# Altium schematic symbol library TAUV-Lib.SchLib: 493 symbols (part 3 of 5)
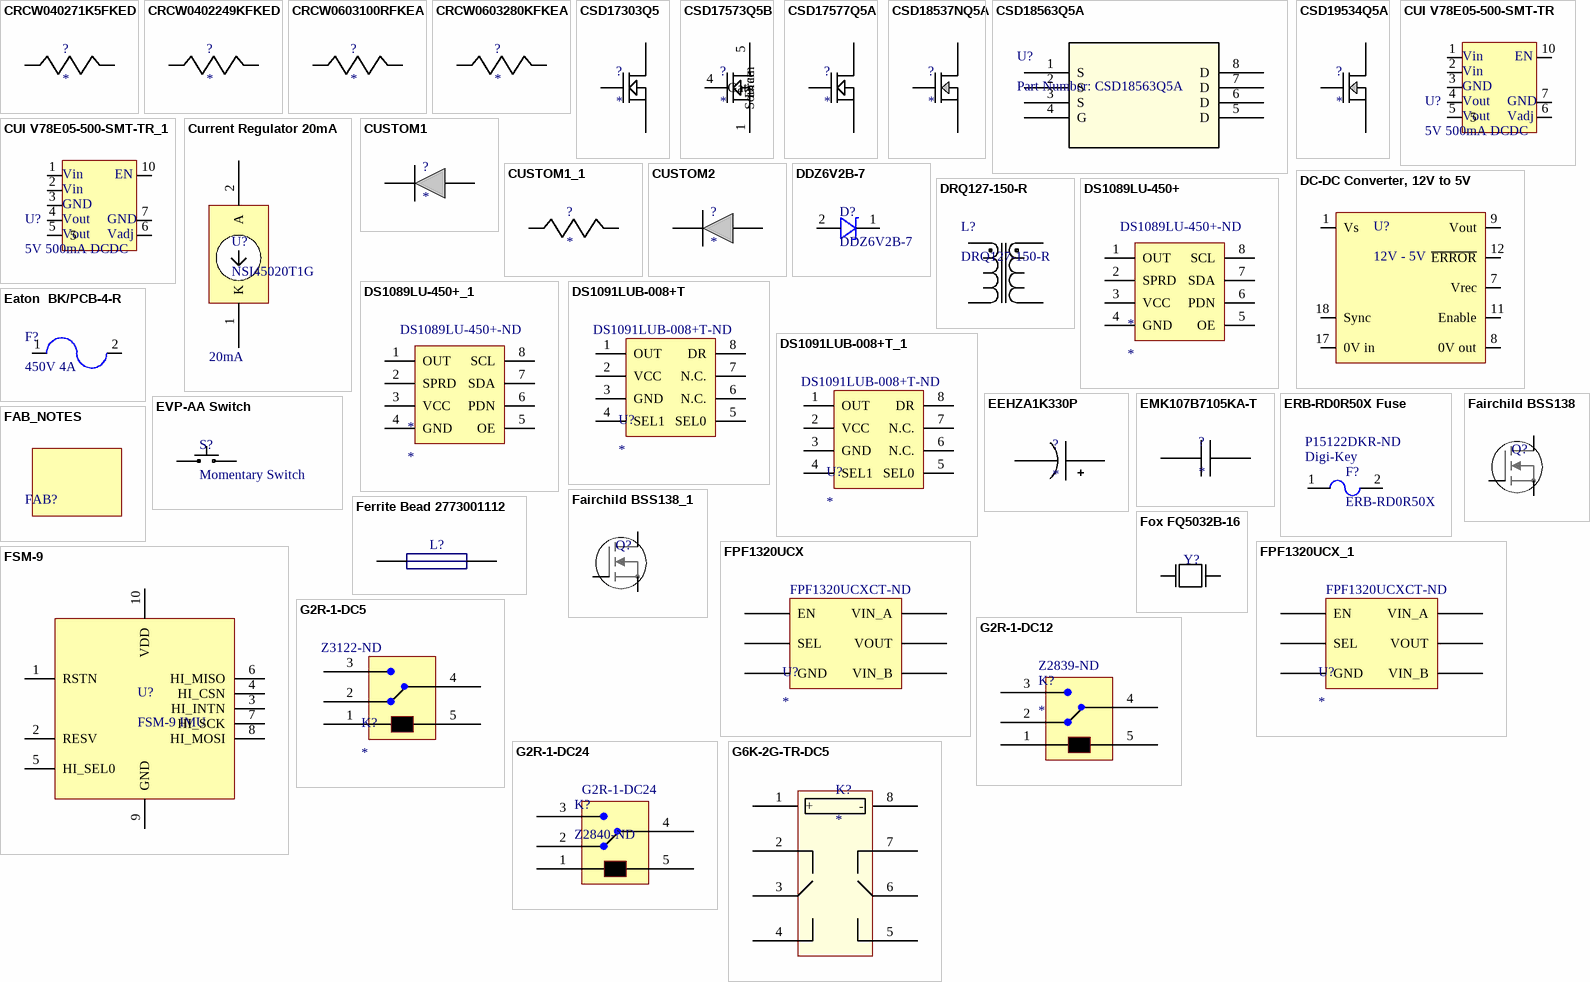
[diagram p16: symbols CRCW040271K5FKED to G6K-2G-TR-DC5]

## DS1089LU-450+_1
designator *  Supplier Part Number 1: DS1089LU-450+-ND
IC ECONOSCILL 3.3V SS 8-USOP; Manufacturer: Maxim Integrated; Manufacturer Part Number: DS1089LU-450+; PLL: No; Input: Clock; Number of Circuits: 1; Ratio - Input:Output: 1:1; Differential - Input:Output: No/No; Frequency - Max: 50MHz; Divider/Multiplier: Yes/No; Voltage - Supply: 2.7 V ~ 3.6 V; Supplier 1: Digi-Key; RoHS: RoHS Compliant; Category: Integrated Circuits (ICs); Stock 1: 43; Pricing 1: 1=1.86, 10=1.767, 25=1.46, 50=1.387, 250=1.33948, 1000=1.13832 (USD); Packaging: Tube; Part Status: Active; Type: Clock Generator; Output: Clock; Operating Temperature: -40°C ~ 85°C; Mounting Type: Surface Mount; Package / Case: 8-TSSOP, 8-MSOP (0.118", 3.00mm Width); Supplier Device Package: 8-uMAX; ComponentLink1URL: http://datasheets.maximintegrated.com/en/ds/DS1089L.pdf; ComponentLink1Description: http://datasheets.maximintegrated.com/en/ds/DS1089L.pdf
footprint TSOP65P490X110-8L (TSOP, 8-Leads, Body 3.00x3.00mm, Pitch 0.65mm, IPC High Density)
pins: 1 OUT, 2 SPRD, 3 VCC, 4 GND, 5 OE, 6 PDN, 7 SDA, 8 SCL

## DS1091LUB-008+T
designator U?  Supplier Part Number 1: DS1091LUB-008+T-ND
IC ECONOSCILLATOR SS 8USOP; Supplier 1: Digi-Key
footprint TSOP65P490X110-8L (TSOP, 8-Leads, Body 3.00x3.00mm, Pitch 0.65mm, IPC High Density)
pins: 1 OUT, 2 VCC, 3 GND, 4 SEL1, 5 SEL0, 6 N.C., 7 N.C., 8 DR

## DS1091LUB-008+T_1
designator U?  Supplier Part Number 1: DS1091LUB-008+T-ND
IC ECONOSCILLATOR SS 8USOP; Supplier 1: Digi-Key
footprint TSOP65P490X110-8L (TSOP, 8-Leads, Body 3.00x3.00mm, Pitch 0.65mm, IPC High Density)
pins: 1 OUT, 2 VCC, 3 GND, 4 SEL1, 5 SEL0, 6 N.C., 7 N.C., 8 DR

## Eaton  BK/PCB-4-R
designator F?, comment 450V 4A
450V 4A 2.5kA Breaking; ComponentLink1Description: digikey; ComponentLink1URL: https://www.digikey.com/product-detail/en/littelfuse-inc/0456040.DR/F3364CT-ND/2080265
footprint BK/PCB-4-R
pins: 1, 2

## EEHZA1K330P
designator ?
No Description Available; Manufacturer_Part_Number: EEHZA1K330P; Cap: 3.3E-5; ESR: 0.036; IRMS: 1.7; VDC: 80.0; Vendor: Panasonic; Datasheet_URL: http://industrial.panasonic.com/www%2Ddata/pdf/ABA0000/ABA0000CE136.pdf; Manufacturer_Name: Panasonic; Copyright: Copyright (C) 2018 Accelerated Designs. All rights reserved; RefDes: RefDes; Type: DEV; Value: Value
footprint SM_RADIAL_10BMM
pins: 1 +, 2 -

## EMK107B7105KA-T
designator ?
No Description Available; Manufacturer_Part_Number: EMK107B7105KA-T; Cap: 1.0E-6; ESR: 0.001; IRMS: 0.0; VDC: 16.0; Vendor: Taiyo Yuden; Datasheet_URL: http://www.yuden.co.jp/ut/product/pdf/djmk%5Fe.pdf; Manufacturer_Name: Taiyo Yuden; Copyright: Copyright (C) 2018 Accelerated Designs. All rights reserved; RefDes: RefDes; Type: DEV; Value: Value
footprint 0603
pins: 1, 2

## ERB-RD0R50X Fuse
designator F?, comment ERB-RD0R50X  Supplier 1: Digi-Key  Supplier Part Number 1: P15122DKR-ND
FUSE BOARD MNT 500MA 32VDC 0402; ComponentLink1Description: Digikey Link; ComponentLink1URL: https://www.digikey.com/product-detail/en/panasonic-electronic-components/ERB-RD0R50X/P15122CT-ND/2796798; ComponentLink2Description: Datasheet Link; ComponentLink2URL: https://industrial.panasonic.com/cdbs/www-data/pdf/AFA0000/AFA0000C7.pdf
footprint 0402 Fuse
pins: 1, 2

## EVP-AA Switch
designator S?, comment Momentary Switch
EVP-AA Momentary Switch SPST-NO; Part Number: EVP-AA202K; Supplier 1: Digi-Key; Supplier Part Number 1: P13348SCT-ND; Datasheet: http://industrial.panasonic.com/lecs/www-data/pdf/ATK0000/ATK0000CE26.pdf
footprint EVP-AA202K (Momentary Switch SMT SPST-NO EVP-AA series)
pins: 1, 2

## FAB_NOTES
designator FAB?, comment FAB NOTES  (value not drawn)
footprint FAB NOTES (Fabrication notes)

## Fairchild BSS138
designator Q?
N-channel MOSFET, logic level
footprint SOT-23-Fairchild
pins: D, G, S
1 alternate drawing of the same symbol

## Fairchild BSS138_1
designator Q?
N-channel MOSFET, logic level
footprint SOT-23-Fairchild
pins: D, G, S
1 alternate drawing of the same symbol

## Ferrite Bead 2773001112
designator L?  (value not drawn)
73 Material Fair-rite ferrite bead; Part #: 2773001112; Manufacturer: Fair-rite
footprint Fair-rite 2773001112 (2773001112 Ferrite Bead)
pins: 1, 2

## Fox FQ5032B-16
designator Y?
16MHz Crystal
footprint FQ 5032B
pins: 1, 3

## FPF1320UCX
designator U?  Supplier Part Number 1: FPF1320UCXCT-ND
IC ADVANCED POWER SWITCH 6WLCSP; Supplier 1: Digi-Key
footprint BGA6C50P2X3_96X146X54 (BGA, 6-Leads, Body 0.96x1.46mmx0.54mm, Pitch 0.50mm)
pins: A1 EN, A2 VIN_A, B1 SEL, B2 VOUT, C1 GND, C2 VIN_B

## FPF1320UCX_1
designator U?  Supplier Part Number 1: FPF1320UCXCT-ND
IC ADVANCED POWER SWITCH 6WLCSP; Supplier 1: Digi-Key
footprint BGA6C50P2X3_96X146X54 (BGA, 6-Leads, Body 0.96x1.46mmx0.54mm, Pitch 0.50mm)
pins: A1 EN, A2 VIN_A, B1 SEL, B2 VOUT, C1 GND, C2 VIN_B

## FSM-9
designator U?, comment FSM-9 IMU
Hillcrest Labs FSM-9 9-axis IMU and AHRS; Supplier 1: Hillcrest Labs; Supplier Part Number 1: FSM-9; Datasheet: http://hillcrestlabs.com/download/2416/; Created By: semerson
footprint FSM-9 (Hillcrest Labs FSM-9 9-axis IMU/AHRS)
pins: 1 RSTN, 2 RESV, 3 HI_INTN, 4 HI_CSN, 5 HI_SEL0, 6 HI_MISO, 7 HI_SCK, 8 HI_MOSI, 9 GND, 10 VDD

## G2R-1-DC5
designator K?  Supplier Part Number 1: Z3122-ND
RELAY GEN PURPOSE SPDT 10A 5V; Supplier 1: Digi-Key
footprint G2R-1 (G2R-1 RELAY GEN PURPOSE SPDT)
pins: 1 18, 2 21, 3 20, 4 19, 5 22

## G2R-1-DC12
designator K?  Supplier Part Number 1: Z2839-ND
RELAY GEN PURPOSE SPDT 10A 12V; Value: Value; Type: Type; RefDes: RefDes; Supplier 1: Digi-Key
footprint G2R-1 (G2R-1 RELAY GEN PURPOSE SPDT)
pins: 1 18, 2 21, 3 20, 4 19, 5 22

## G2R-1-DC24
designator K?, comment Z2840-ND
RELAY GEN PURPOSE SPDT 10A 24V; RefDes: RefDes; Supplier Part Number 1: Z2840-ND; Supplier 1: Digi-Key; Type: Type; Value: Value
footprint G2R-1 (G2R-1 RELAY GEN PURPOSE SPDT)
pins: 1 18, 2 21, 3 20, 4 19, 5 22

## G6K-2G-TR-DC5
designator K?
MPN: G6K-2G-TR DC5
footprint G6K-2G
pins: 1 +, 2 NO1, 3 OUT1, 4 NC1, 5 NC2, 6 OUT2, 7 NO2, 8 -

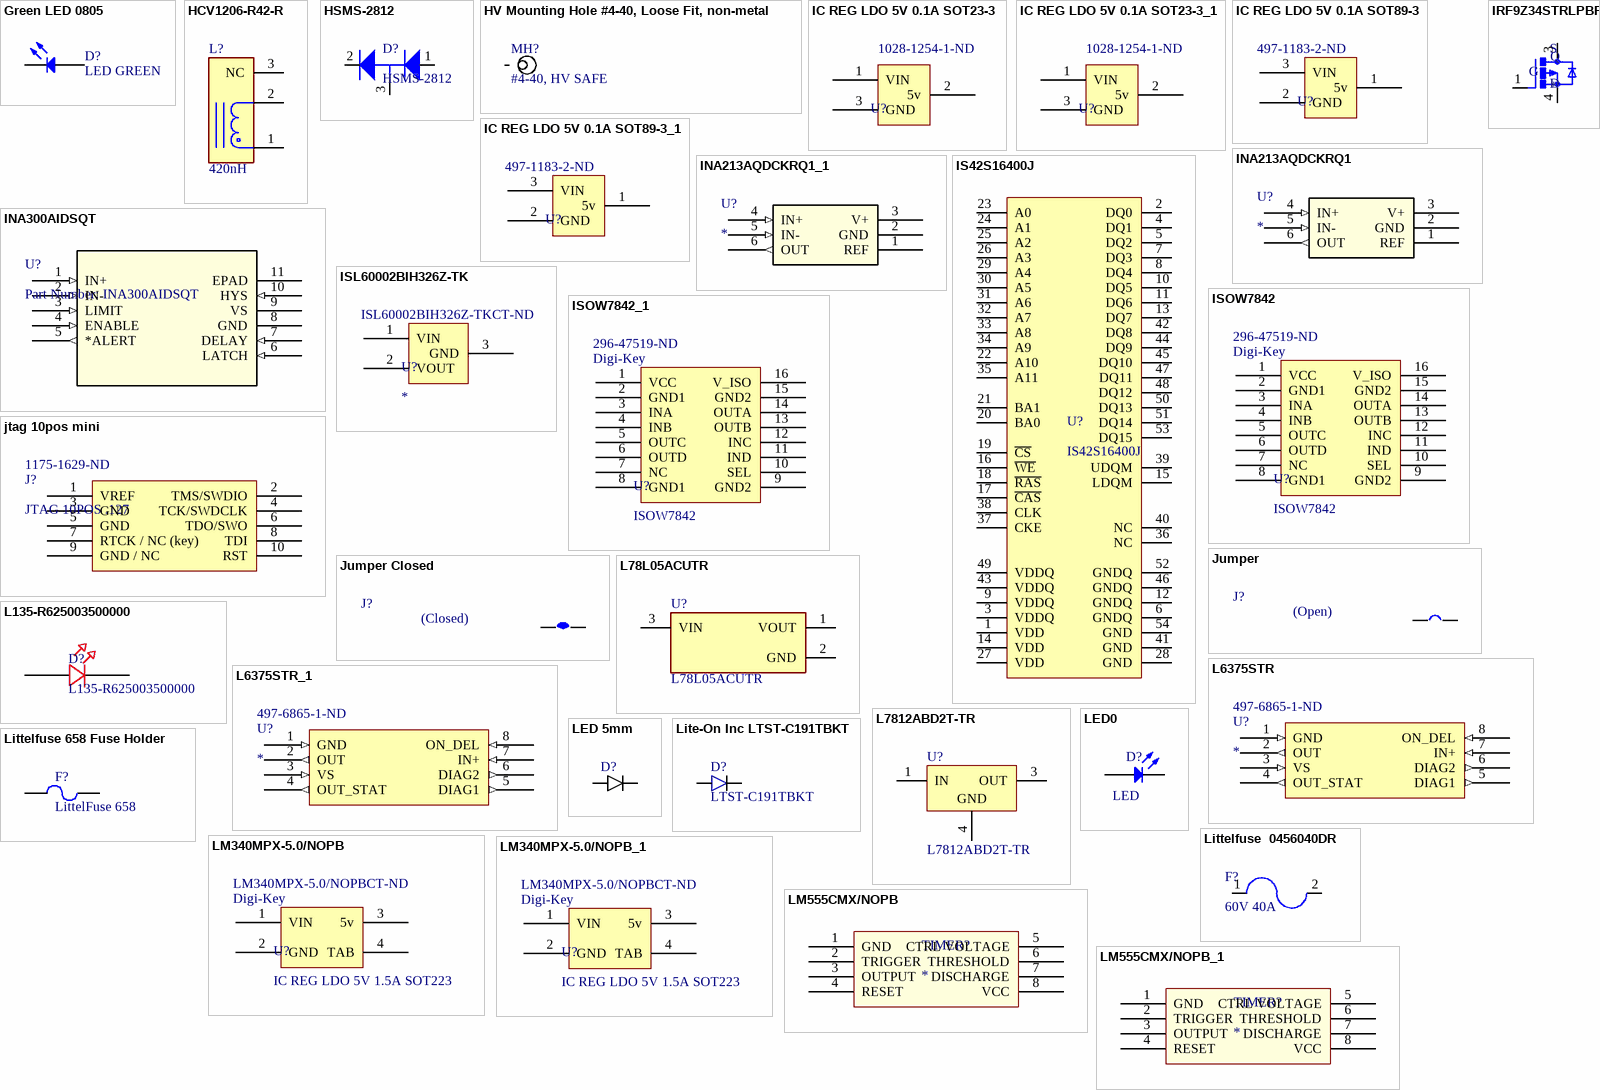
[diagram p6: symbols Green LED 0805 to LM555CMX/NOPB_1]

## Green LED 0805
designator D?, comment LED GREEN
led; Manufacturer: Lite-On Inc.; Manufacturer Part Number: LTST-C171KGKT; Lens Color: Colorless; Lens Transparency: Clear; Millicandela Rating: 35mcd; Lens Style/Size: Rectangle with Flat Top, 1.40mm x 1.25mm; Voltage - Forward (Vf) (Typ): 2V; Current - Test: 20mA; Viewing Angle: 130°; Wavelength - Dominant: 571nm; Wavelength - Peak: 574nm; Supplier 1: Digi-Key; Supplier Part Number 1: 160-1426-1-ND; RoHS: RoHS Compliant; Category: Optoelectronics; Stock 1: 350441; Pricing 1: 1=0.31, 10=0.225, 25=0.1656, 100=0.1183, 250=0.0804, 500=0.07096, 1000=0.05558 (USD); Packaging: Cut Tape (CT); Part Status: Active; Color: Green; Mounting Type: Surface Mount; Features: -; Package / Case: 0805 (2012 Metric); Size / Dimension: 2.00mm L x 1.25mm W; Height (Max): 0.90mm; ComponentLink1URL: http://optoelectronics.liteon.com/upload/download/DS22-2000-118/LTST-C171KGKT.pdf; ComponentLink1Description: http://optoelectronics.liteon.com/upload/download/DS22-2000-118/LTST-C171KGKT.pdf; ComponentLink2Description: Link; ComponentLink2URL: https://www.digikey.com/en/products/detail/LTST-C171KGKT/160-1426-1-ND/386798?curr=usd&utm_campaign=buynow&utm_medium=aggregator&utm_source=octopart
footprint LED-0 (LED; 2 Leads)
simulation model LED0 (Diode)
footprint 0402 LED (0402 LED Package)
footprint 0603 - LED
footprint LED_0805 (Liteon 0805 Chip LED)
footprint 1206 LED
footprint 0805
pins: 1 K, 2 A

## HCV1206-R42-R
designator L?, comment 420nH
HCV1206-R42-R -FIXED IND 420NH 16A 3.15 MOHM; Shielding: Unshielded; Tolerance: 10%; DC Resistance (DCR): 3.15mR; Core Material: Ferrite; Saturation Current: 42A; Test Frequency: 100kHz; Mount: Surface Mount; Length: 0.48inch; Width: 0.386inch; Resistor Type: Wirewound; RoHS Compliant: Yes; Packaging: Tape and Reel; Min Operating Temperature: -55°C; Case/Package: Nonstandard; Height - Seated (Max): 0.201inch; Max Operating Temperature: 125°C; Current Rating: 16A; Lead Free: Lead Free; Inductance: 420nH; ComponentLink1Description: Link; ComponentLink1URL: https://www.digikey.com/en/products/detail/eaton-electronics-division/HCV1206-R42-R/5418747
footprint FP-HCV1206-R42-R-MFG
pins: 1, 2, 3 NC

## HSMS-2812
designator D?
Schottky Diodes & Rectifiers 20 VBR 1.2 pF; Part Number: HSMS-2812-BLKG; Supplier: Mouser; Datasheet: http://www1.futureelectronics.com/doc/AVAGO%20TECHNOLOGIES/HSMS-2812-TR1G.pdf; Supplier Part Number: 630-HSMS-2812-BLKG
footprint SOT23-HSMS-2812 (SOT23, 3-Leads, Body 2.93x2.40mm, Pitch 0.95mm, IPC Medium Density)
pins: 1, 2, 3

## HV Mounting Hole #4-40, Loose Fit, non-metal
designator MH?, comment #4-40, HV SAFE  (no BOM)
HV Mounting Hole for ANSI #4-40 w/ Flat Washer, Loose Fit, non-metal; Datasheet: http://blogs.mentor.com/tom-hausherr/blog/tag/pcb-mounting-holes/
footprint Non-Metallic Mounting Hole #4-40 (Mounting Hole for ANSI #4-40 w/ Flat Washer, Loose Fit, no annular ring or plating)
pins: 0

## IC REG LDO 5V 0.1A SOT23-3
designator U?  Supplier Part Number 1: 1028-1254-1-ND  (hidden comment: IC REG LDO 5V 0.1A SOT23-3)
Supplier 1: Digi-Key
footprint SOT95P245X130-3N (SOT23, 3-Leads, Body 2.90x2.45mm, Pitch 0.95mm, IPC Medium Density)
pins: 1 VIN, 2 5v, 3 GND

## IC REG LDO 5V 0.1A SOT23-3_1
designator U?, comment Supplier Part Number 1: 1028-1254-1-ND  (hidden comment: IC REG LDO 5V 0.1A SOT23-3)
Supplier 1: Digi-Key
footprint SOT95P245X130-3N (SOT23, 3-Leads, Body 2.90x2.45mm, Pitch 0.95mm, IPC Medium Density)
pins: 1 VIN, 2 5v, 3 GND

## IC REG LDO 5V 0.1A SOT89-3
designator U?  Supplier Part Number 1: 497-1183-2-ND  (hidden comment: IC REG LDO 5V 0.1A SOT89-3)
Supplier 1: Digi-Key
footprint SOT89-150P409X160-3N (SOT89, 3-Leads, Body 4.50x2.45mm, Pitch 1.50mm, Lead Span 4.1mm, IPC Medium Density)
pins: 1 5v, 2 GND, 3 VIN

## IC REG LDO 5V 0.1A SOT89-3_1
designator U?, comment Supplier Part Number 1: 497-1183-2-ND  (hidden comment: IC REG LDO 5V 0.1A SOT89-3)
Supplier 1: Digi-Key
footprint SOT89-150P409X160-3N (SOT89, 3-Leads, Body 4.50x2.45mm, Pitch 1.50mm, Lead Span 4.1mm, IPC Medium Density)
pins: 1 5v, 2 GND, 3 VIN

## INA213AQDCKRQ1
designator U?
INA213AQDCKRQ1 50V/V isense; Manufacturer: Texas Instruments; Built_By: EMA_UL_Team; C: Copyright (C) 2015 Accelerated Designs. All rights reserved; Vendor: Texas Instruments; Manufacturer_Part_Number: INA213AQDCKRQ1; RefDes: RefDes; Type: DEV; Value: Value
footprint DCK6
pins: 1 REF (power), 2 GND (power), 3 V+ (power), 4 IN+ (in), 5 IN- (in), 6 OUT (out)

## INA213AQDCKRQ1_1
designator U?
INA213AQDCKRQ1 50V/V isense; Manufacturer: Texas Instruments; Built_By: EMA_UL_Team; C: Copyright (C) 2015 Accelerated Designs. All rights reserved; Vendor: Texas Instruments; Manufacturer_Part_Number: INA213AQDCKRQ1; RefDes: RefDes; Type: DEV; Value: Value
footprint DCK6
pins: 1 REF (power), 2 GND (power), 3 V+ (power), 4 IN+ (in), 5 IN- (in), 6 OUT (out)

## INA300AIDSQT
designator U?, comment Part Number: INA300AIDSQT
No Description Available; Vendor: Texas Instruments; Built_By: EMA_UL_Team; Manufacturer_Part_Number: INA300AIDSQT; Copyright: Copyright (C) 2018 Accelerated Designs. All rights reserved; RefDes: RefDes; Type: DEV; Value: Value
footprint DSQ10_P9X1P5
pins: 1 IN+ (in), 2 IN- (in), 3 LIMIT (in), 4 ENABLE (in), 5 *ALERT (out), 6 LATCH (in), 7 DELAY (in), 8 GND (power), 9 VS (power), 10 HYS (in), 11 EPAD

## IRF9Z34STRLPBF
designator Q
P-Channel 60V 18A _Tc_ 3.7W _Ta_, 88W _Tc_ Surface Mount D2PAK; MF: Vishay; MP: IRF9Z34STRLPBF; Package: D2PAK Vishay; Value: *; Availability: Unavailable; Price: None; SnapEDA_Link: https://www.snapeda.com/parts/IRF9Z34STRLPBF/Vishay%20Siliconix/view-part/813693/?ref=snap
footprint TO254P1521X483-4N
footprint TO254P1521X483-4N
pins: 1 G, 3 S, 4 D

## IS42S16400J
designator U?
64Mbit SDRAM; Manufacturer: ISSI; Datasheet: http://www.mouser.com/ds/2/198/42-45S16400J-258565.pdf; Manufacturer Part Number: IS42S16400J; Supplier 1: Mouser; Supplier Part Number 1: 870-IS42S16400J-7TL
footprint IS42S16400J (64Mbit SDRAM)
pins: 1 VDD, 2 DQ0, 3 VDDQ, 4 DQ1, 5 DQ2, 6 GNDQ, 7 DQ3, 8 DQ4, 9 VDDQ, 10 DQ5, 11 DQ6, 12 GNDQ, 13 DQ7, 14 VDD, 15 LDQM, 16 ~{WE}, 17 ~{CAS}, 18 ~{RAS}, 19 ~{CS}, 20 BA0, 21 BA1, 22 A10, 23 A0, 24 A1, 25 A2, 26 A3, 27 VDD, 28 GND, 29 A4, 30 A5, 31 A6, 32 A7, 33 A8, 34 A9, 35 A11, 36 NC, 37 CKE, 38 CLK, 39 UDQM, 40 NC, 41 GND, 42 DQ8, 43 VDDQ, 44 DQ9, 45 DQ10, 46 GNDQ, 47 DQ11, 48 DQ12, 49 VDDQ, 50 DQ13, 51 DQ14, 52 GNDQ, 53 DQ15, 54 GND

## ISL60002BIH326Z-TK
designator U?  Supplier Part Number 1: ISL60002BIH326Z-TKCT-ND
IC VREF SERIES 2.6V SOT23-3; Supplier 1: Digi-Key
footprint SOT23-HSMS-2812 (SOT23, 3-Leads, Body 2.93x2.40mm, Pitch 0.95mm, IPC Medium Density)
pins: 1 VIN, 2 VOUT, 3 GND

## ISOW7842
designator U?  Supplier 1: Digi-Key  Supplier Part Number 1: 296-47519-ND
High-Efficiency, Low-Emissions, Reinforced Digital Isolator With Integrated Power; Part Number: TXB0106; Part Creator: dgorzigl; Datasheet: http://www.ti.com/lit/ds/symlink/txb0106.pdf
footprint ISOW7842
pins: 1 VCC, 2 GND1, 3 INA, 4 INB, 5 OUTC, 6 OUTD, 7 NC, 8 GND1, 9 GND2, 10 SEL, 11 IND, 12 INC, 13 OUTB, 14 OUTA, 15 GND2, 16 V_ISO

## ISOW7842_1
designator U?, comment ISOW7842  Supplier 1: Digi-Key  Supplier Part Number 1: 296-47519-ND
High-Efficiency, Low-Emissions, Reinforced Digital Isolator With Integrated Power; Part Number: TXB0106; Part Creator: dgorzigl; Datasheet: http://www.ti.com/lit/ds/symlink/txb0106.pdf
footprint ISOW7842
pins: 1 VCC, 2 GND1, 3 INA, 4 INB, 5 OUTC, 6 OUTD, 7 NC, 8 GND1, 9 GND2, 10 SEL, 11 IND, 12 INC, 13 OUTB, 14 OUTA, 15 GND2, 16 V_ISO

## jtag 10pos mini
designator J?, comment JTAG 10POS .127  Supplier Part Number 1: 1175-1629-ND
Supplier 1: Digi-Key
footprint 5x2 JTAG SMD
pins: 1 VREF, 2 TMS/SWDIO, 3 GND, 4 TCK/SWDCLK, 5 GND, 6 TDO/SWO, 7 RTCK / NC (key), 8 TDI, 9 GND / NC, 10 RST

## Jumper
designator J?, comment (Open)
Jumper
footprint Solder Jumper
pins: 1, 2

## Jumper Closed
designator J?, comment (Closed)
Jumper
footprint Solder Jumper - Closed
pins: 1, 2

## L78L05ACUTR
designator U?
IC REG LINEAR 5V 100MA SOT89-3; Output Voltage Accuracy: 4%; Number of Regulators: 1; Polarity: Positive; Quiescent Current: 6mA; Min Input Voltage: 7V; Power Supply Rejection Ratio (PSRR): 49dB; Output Type: Fixed; Max Input Voltage: 30V; Dropout Voltage: 1.7V; Nominal Output Voltage: 5V; Radiation Hardening: No; Number of Pins: 3; Weight: 0.004603oz; Output Current: 100mA; Width: 2.6mm; Packaging: Tape and Reel; Output Voltage: 5V; Length: 4.6mm; Max Output Current: 100mA; Min Operating Temperature: 0°C; Package Quantity: 1; Accuracy: 4%; Case/Package: SOT-89; Lead Free: Lead Free; Height: 1.6mm; Min Output Voltage: 5V; Contact Plating: Tin; Number of Outputs: 1; REACH SVHC: No SVHC; Mount: Surface Mount; Max Operating Temperature: 125°C; ComponentLink1Description: Link; ComponentLink1URL: https://www.digikey.com/en/products/detail/stmicroelectronics/L78L05ACUTR/585707?s=N4IgTCBcDaIDIHYAccAMBWAggYQKoBUAlEAXQF8g
footprint FP-SOT-89-7098166-MFG
pins: 1 VOUT (power), 2 GND (power), 3 VIN (power)

## L135-R625003500000
designator D?
LED Lighting Color LUXEON 3535L Red 625nm (620nm ~ 630nm) 2-SMD, Flat Lead; Part Number: L135-R625003500000; Supplier 1: Digi-Key; Supplier Part Number 1: 1416-1493-1-ND; Datasheet: http://www.lumileds.com/uploads/565/DS146-pdf; Manufacturer: Luxeon
footprint L135-R625003500000 (LUXEON 3535L Color Line)
pins: 1, 2

## L6375STR
designator U?  Supplier Part Number 1: 497-6865-1-ND
IC DRIVER HI SIDE 0.5A IPS 8SOIC; Supplier 1: Digi-Key; ComponentLink1Description: DIgikey Link; ComponentLink1URL: https://www.digikey.com/product-detail/en/stmicroelectronics/L6375STR/497-6865-1-ND/1880244
footprint SOIC127P600X175-8N (SOIC, 8-Leads, Body 4.90x3.90mm, Pitch 1.27mm, IPC Medium Density)
pins: 1 GND (in), 2 OUT (out), 3 VS (in), 4 OUT_STAT (out), 5 DIAG1 (out), 6 DIAG2 (out), 7 IN+ (in), 8 ON_DEL (in)

## L6375STR_1
designator U?  Supplier Part Number 1: 497-6865-1-ND
IC DRIVER HI SIDE 0.5A IPS 8SOIC; Supplier 1: Digi-Key; ComponentLink1Description: DIgikey Link; ComponentLink1URL: https://www.digikey.com/product-detail/en/stmicroelectronics/L6375STR/497-6865-1-ND/1880244
footprint SOIC127P600X175-8N (SOIC, 8-Leads, Body 4.90x3.90mm, Pitch 1.27mm, IPC Medium Density)
pins: 1 GND (in), 2 OUT (out), 3 VS (in), 4 OUT_STAT (out), 5 DIAG1 (out), 6 DIAG2 (out), 7 IN+ (in), 8 ON_DEL (in)

## L7812ABD2T-TR
designator U?
Positive Voltage Regulator, 3-Pin D2PAK, Tape and Reel; ComponentLink1Description: Manufacturer URL; ComponentLink2URL: http://www.st.com/internet/com/TECHNICAL_RESOURCES/TECHNICAL_LITERATURE/DATASHEET/CD00000444.pdf; PackageVersion: 2011; PackageDescription: 3-Pin Transistor Outline Package 2.54 mm Pitch, 15.4 mm Lead Span (D2PAK); DatasheetVersion: 16/11/2011; PackageReference: TO-263; ComponentLink1URL: http://www.st.com; ComponentLink2Description: Datasheet; ComponentLink3Description: Link; ComponentLink3URL: https://www.digikey.com/en/products/detail/stmicroelectronics/L7812ABD2T-TR/1038261?s=N4IgTCBcDaIDIHYAcBGMBBAQgETAFQFo8AlEAXQF8g
footprint TO-263_L (D2-PAK, 4-Leads, Body 9.2x10.2mm, Pitch 2.54mm, Lead Span 15.4mm, IPC High Density)
footprint TO-263_M (D2-PAK, 4-Leads, Body 9.2x10.2mm, Pitch 2.54mm, Lead Span 15.4mm, IPC Low Density)
footprint TO-263_N (D2-PAK, 4-Leads, Body 9.2x10.2mm, Pitch 2.54mm, Lead Span 15.4mm, IPC Medium Density)
pins: 1 IN (power), 3 OUT (power), 4 GND (power)

## LED0
designator D?, comment LED
Manufacturer: Lite-On Inc; Manufacturer Part Number: LTST-C171AKT; Color: Red; Wavelength - Dominant: 631nm; Wavelength - Peak: 639nm; Millicandela Rating: 54mcd; Voltage - Forward (Vf) (Typ): 2V; Current - Test: 20mA; Viewing Angle: 130°; Lens Type: Clear; Lens Style/Size: Rectangle with Flat Top, 1.4mm x 1.25mm; Published: 8-Jun-2000; LatestRevisionDate: 08-Jul-2005; LatestRevisionNote: Mech Layer 1 removed.; PackageReference: LED-0; Publisher: Altium Limited; PackageDescription: LED; 2 Leads; Supplier 1: Digi-Key; Supplier Part Number 1: 160-1419-1-ND; RoHS: RoHS Compliant; Category: Optoelectronics; Stock 1: 72989; Pricing 1: 1=0.32, 10=0.248, 100=0.135, 250=0.09, 500=0.0765, 1000=0.0585 (USD); Packaging: Cut Tape (CT); Package / Case: 0805 (2012 Metric); Size / Dimension: 2.00mm L x 1.25mm W; Height: 0.80mm; Mounting Type: Surface Mount; Luminous Flux @ Current - Test: -; ComponentLink1URL: http://optoelectronics.liteon.com/upload/download/DS22-2000-109/S_110_LTST-C171KRKT.pdf; ComponentLink1Description: http://optoelectronics.liteon.com/upload/download/DS22-2000-109/S_110_LTST-C171KRKT.pdf
footprint LED-0 (LED; 2 Leads)
simulation model LED0 (Diode)
footprint 0402 LED (0402 LED Package)
footprint 0603 - LED
footprint LED_0805 (Liteon 0805 Chip LED)
footprint 1206 LED
pins: 1 K, 2 A

## LED 5mm
designator D?
footprint LED 5mm
pins: 1, 2

## Lite-On Inc LTST-C191TBKT
designator D?, comment LTST-C191TBKT
LED 468NM BLUE CLEAR 0603 SMD; Vf @ 20mA: 3.4V (typ); Derated Current: 5 mA; Color: Blue; PN: LTST-C191TBKT
footprint Lite-On Inc LTST-C191TBKT (LED 468NM BLUE CLEAR 0603 SMD)
pins: 0, 1

## Littelfuse 658 Fuse Holder
designator F?, comment LittelFuse 658
LittelFuse 658 Series Fuse Holder; Rated Current: 10A; Rated Voltage: 250; Contact Resistance: 5mOhm; Rated Power: 4W (with 660 or no cover); Datasheet: http://www.littelfuse.com/data/en/data_sheets/658_659_660_lf_050519.pdf
footprint LittelFuse 658 Series Fuse Holder (Fuse Holder)
pins: 1, 2

## Littelfuse  0456040DR
designator F?, comment 60V 40A
60V 40A 600A Breaking; ComponentLink1Description: digikey; ComponentLink1URL: https://www.digikey.com/product-detail/en/littelfuse-inc/0456040.DR/F3364CT-ND/2080265
footprint 0456040DR
pins: 1, 2

## LM340MPX-5.0/NOPB
designator U?, comment IC REG LDO 5V 1.5A SOT223  Supplier 1: Digi-Key  Supplier Part Number 1: LM340MPX-5.0/NOPBCT-ND
SOT223 5V 1.5A Linear Regulator; ComponentLink1Description: Digikey Link; ComponentLink1URL: https://www.digikey.com/product-detail/en/texas-instruments/LM340MPX-5.0-NOPB/LM340MPX-5.0-NOPBCT-ND/3526959
footprint IC REG LDO 5V 1.5A SOT223 (Linear Voltage Regulator IC Positive Fixed 1 Output 5V 1.5A SOT-223-4)
pins: 1 VIN, 2 GND, 3 5v, 4 TAB

## LM340MPX-5.0/NOPB_1
designator U?, comment IC REG LDO 5V 1.5A SOT223  Supplier 1: Digi-Key  Supplier Part Number 1: LM340MPX-5.0/NOPBCT-ND
SOT223 5V 1.5A Linear Regulator; ComponentLink1Description: Digikey Link; ComponentLink1URL: https://www.digikey.com/product-detail/en/texas-instruments/LM340MPX-5.0-NOPB/LM340MPX-5.0-NOPBCT-ND/3526959
footprint IC REG LDO 5V 1.5A SOT223 (Linear Voltage Regulator IC Positive Fixed 1 Output 5V 1.5A SOT-223-4)
pins: 1 VIN, 2 GND, 3 5v, 4 TAB

## LM555CMX/NOPB
designator TIMER?
footprint SOIC127P600X175-8N (SOIC, 8-Leads, Body 4.90x3.90mm, Pitch 1.27mm, IPC Medium Density)
pins: 1 GND, 2 TRIGGER, 3 OUTPUT, 4 RESET, 5 CTRL VOLTAGE, 6 THRESHOLD, 7 DISCHARGE, 8 VCC

## LM555CMX/NOPB_1
designator TIMER?
footprint SOIC127P600X175-8N (SOIC, 8-Leads, Body 4.90x3.90mm, Pitch 1.27mm, IPC Medium Density)
pins: 1 GND, 2 TRIGGER, 3 OUTPUT, 4 RESET, 5 CTRL VOLTAGE, 6 THRESHOLD, 7 DISCHARGE, 8 VCC

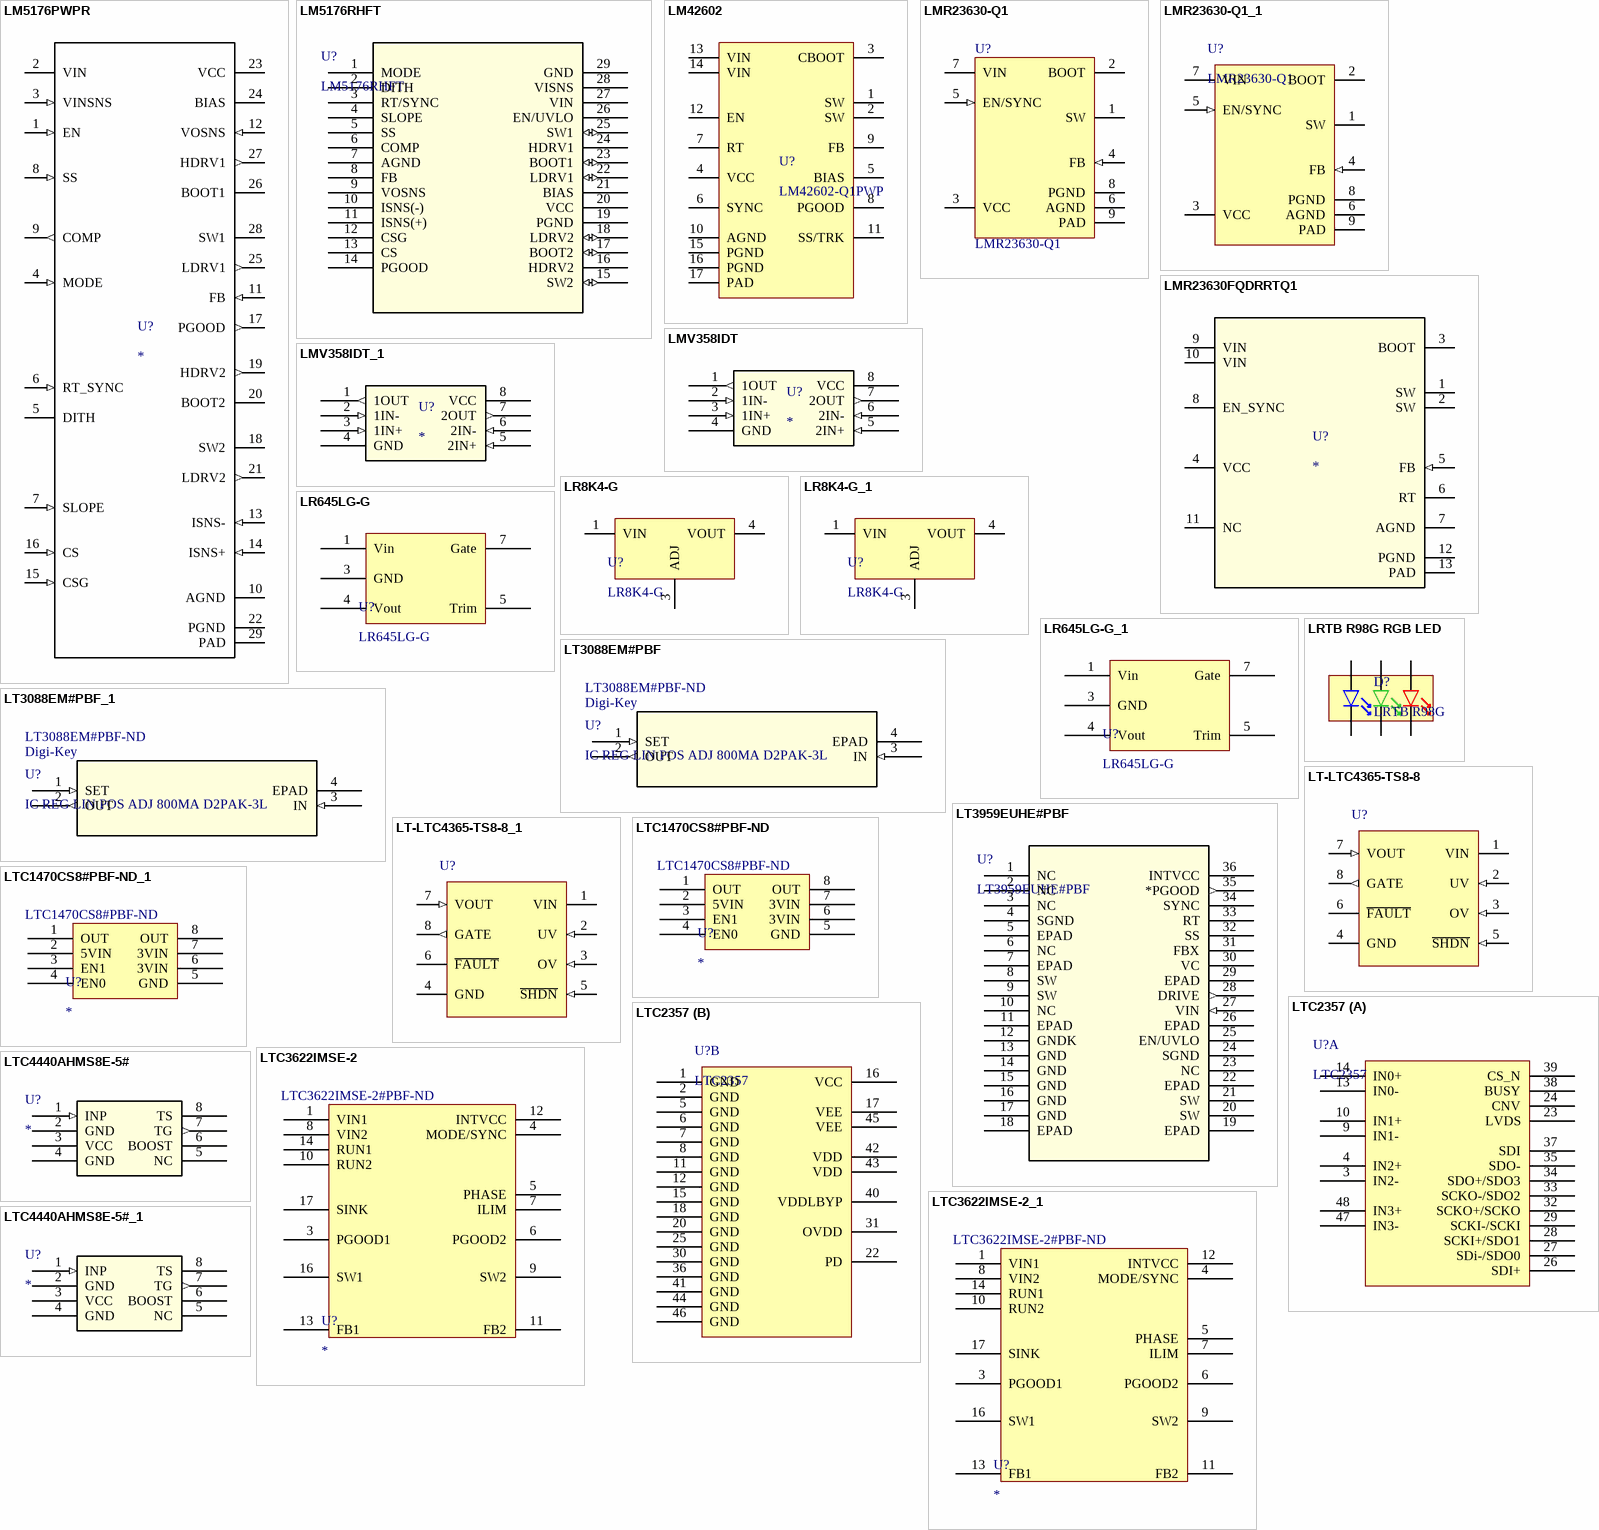
[diagram p7: symbols LM5176PWPR to LTC4440AHMS8E-5#_1]

## LM5176PWPR
designator U?
No Description Available; PartNumber: LM5176PWPR; Manufacturer: Texas Instruments; RefDes: RefDes; Type: DEV; Value: Value; Manufacturer_Part_Number: LM5176PWPR; Manufacturer_Name: Texas Instruments; Copyright: Copyright (C) 2018 Accelerated Designs. All rights reserved
footprint PWP0028C_N
pins: 1 EN (in), 2 VIN (power), 3 VINSNS (in), 4 MODE (in), 5 DITH, 6 RT_SYNC (in), 7 SLOPE (in), 8 SS (in), 9 COMP (out), 10 AGND (power), 11 FB (in), 12 VOSNS (in), 13 ISNS- (in), 14 ISNS+ (in), 15 CSG (in), 16 CS (in), 17 PGOOD (out), 18 SW2 (power), 19 HDRV2 (out), 20 BOOT2 (power), 21 LDRV2 (out), 22 PGND (power), 23 VCC (power), 24 BIAS (power), 25 LDRV1 (out), 26 BOOT1 (power), 27 HDRV1 (out), 28 SW1 (power), 29 PAD (power)

## LM5176RHFT
designator U?
No Description Available; Mfr_Name: Texas Instruments; Copyright: Copyright (C) 2022 Ultra Librarian. All rights reserved.; Manufacturer_Part_Number: LM5176RHFT; Digi-Key_Part_Number_1: 296-LM5176RHFTTR-ND; Digi-Key_Part_Number_2: 296-LM5176RHFTCT-ND; Digi-Key_Part_Number_3: 296-LM5176RHFTDKR-ND; RefDes: RefDes; Type: DEV
footprint VQFN_76RHFT_TEX
pins: 1 MODE, 2 DITH, 3 RT/SYNC, 4 SLOPE, 5 SS, 6 COMP, 7 AGND, 8 FB, 9 VOSNS, 10 ISNS(-), 11 ISNS(+), 12 CSG, 13 CS, 14 PGOOD (power), 15 SW2 (io), 16 HDRV2, 17 BOOT2 (io), 18 LDRV2 (io), 19 PGND, 20 VCC (power), 21 BIAS, 22 LDRV1 (io), 23 BOOT1 (io), 24 HDRV1, 25 SW1 (io), 26 EN/UVLO, 27 VIN, 28 VISNS, 29 GND

## LM42602
designator U?, comment LM42602-Q1PWP
Simple Switcher 3.5V to 36V 2A Synchronous Step-Down Voltage Converter; Manufacturer: Texas Instruments; Manufacturer Part Number: LM43602-Q1; Datasheet: http://www.ti.com/lit/ds/symlink/lm43602-q1.pdf; Input Voltage Range: 3.5V to 36V; Output Current: 2A; Supplier 1: Digi-Key; Supplier Part Number 1: 296-42119-1-ND
footprint LM43602-Q1 (SIMPLE SWITCHER 3.5V TO 36V INPUT 2A OUTPUT)
pins: 1 SW, 2 SW, 3 CBOOT, 4 VCC, 5 BIAS, 6 SYNC, 7 RT, 8 PGOOD, 9 FB, 10 AGND, 11 SS/TRK, 12 EN, 13 VIN, 14 VIN, 15 PGND "SW", 16 PGND, 17 PAD

## LMR23630-Q1
designator U?
Manufacturer: Texas Instruments; Manufacturer Part Number: LMR23630AFQDDARQ1; Function: Step-Down; Output Configuration: Positive; Topology: Buck; Output Type: Adjustable; Number of Outputs: 1; Voltage - Input (Min): 4.5V; Voltage - Input (Max): 36V; Voltage - Output (Min/Fixed): 1V; Voltage - Output (Max): 28V; Current - Output: 3A; Frequency - Switching: 400kHz; Synchronous Rectifier: Yes; Supplier 1: Digi-Key; RoHS: RoHS Compliant; Category: Integrated Circuits (ICs); Stock 1: 1636; Pricing 1: 1=3.97, 10=3.564, 100=2.9204, 500=2.48604, 1000=2.09667 (USD); Packaging: Digi-Reel®; Part Status: Active; Operating Temperature: -40°C ~ 125°C (TJ); Mounting Type: Surface Mount; Package / Case: 8-SOIC (0.154", 3.90mm Width) Exposed Pad; Supplier Device Package: 8-SO PowerPad; ComponentLink1URL: http://www.ti.com/lit/ds/symlink/lmr23630-q1.pdf; ComponentLink1Description: http://www.ti.com/lit/ds/symlink/lmr23630-q1.pdf; Supplier Part Number 1: 296-45260-6-ND; ComponentLink2Description: Link; ComponentLink2URL: https://www.digikey.com/en/products/detail/texas-instruments/LMR23630AQDDARQ1/6590816
footprint DDA0008E_N (SOP, 8-Leads, Body 4x5mm, Pitch 1.27mm, Thermal Pad 2.4x3.1mm, IPC Medium Density)
pins: 1 SW, 2 BOOT, 3 VCC, 4 FB (in), 5 EN/SYNC (in), 6 AGND, 7 VIN, 8 PGND, 9 PAD

## LMR23630-Q1_1
designator U?, comment LMR23630-Q1
Manufacturer: Texas Instruments; Manufacturer Part Number: LMR23630AFQDDARQ1; Function: Step-Down; Output Configuration: Positive; Topology: Buck; Output Type: Adjustable; Number of Outputs: 1; Voltage - Input (Min): 4.5V; Voltage - Input (Max): 36V; Voltage - Output (Min/Fixed): 1V; Voltage - Output (Max): 28V; Current - Output: 3A; Frequency - Switching: 400kHz; Synchronous Rectifier: Yes; Supplier 1: Digi-Key; RoHS: RoHS Compliant; Category: Integrated Circuits (ICs); Stock 1: 1636; Pricing 1: 1=3.97, 10=3.564, 100=2.9204, 500=2.48604, 1000=2.09667 (USD); Packaging: Digi-Reel®; Part Status: Active; Operating Temperature: -40°C ~ 125°C (TJ); Mounting Type: Surface Mount; Package / Case: 8-SOIC (0.154", 3.90mm Width) Exposed Pad; Supplier Device Package: 8-SO PowerPad; ComponentLink1URL: http://www.ti.com/lit/ds/symlink/lmr23630-q1.pdf; ComponentLink1Description: http://www.ti.com/lit/ds/symlink/lmr23630-q1.pdf; Supplier Part Number 1: 296-45260-6-ND
footprint DDA0008E_N (SOP, 8-Leads, Body 4x5mm, Pitch 1.27mm, Thermal Pad 2.4x3.1mm, IPC Medium Density)
pins: 1 SW, 2 BOOT, 3 VCC, 4 FB (in), 5 EN/SYNC (in), 6 AGND, 7 VIN, 8 PGND, 9 PAD

## LMR23630FQDRRTQ1
designator U?
No Description Available; Mfr_Name: Texas Instruments; TYPE: TYPE; RefDes: RefDes
footprint DRR0012D
pins: 1 SW (power), 2 SW (power), 3 BOOT (power), 4 VCC (power), 5 FB (in), 6 RT, 7 AGND (power), 8 EN_SYNC (power), 9 VIN (power), 10 VIN (power), 11 NC (power), 12 PGND (power), 13 PAD (power)

## LMV358IDT
designator U?
IC OPAMP GP 1.3MHZ 8SO; Manufacturer: STMicroelectronics; Manufacturer_Part_Number: LMV358IDT; Vendor: Digikey; Supplier Part Number: 497-4945-2-ND
footprint SOIC-8
pins: 1 1OUT (out), 2 1IN- (in), 3 1IN+ (in), 4 GND (power), 5 2IN+ (in), 6 2IN- (in), 7 2OUT (out), 8 VCC (power)

## LMV358IDT_1
designator U?
IC OPAMP GP 1.3MHZ 8SO; Manufacturer: STMicroelectronics; Manufacturer_Part_Number: LMV358IDT; Vendor: Digikey; Supplier Part Number: 497-4945-2-ND
footprint SOIC-8
pins: 1 1OUT (out), 2 1IN- (in), 3 1IN+ (in), 4 GND (power), 5 2IN+ (in), 6 2IN- (in), 7 2OUT (out), 8 VCC (power)

## LR8K4-G
designator U?
SMPS Startup Regulator; Manufacturer: Microchip Technology; Voltage-Input: 13.2-450V; Voltage - Output: 1.2-438V; Current - Output: 30mA; Part Number: LR8K4-G; Supplier 1: Digi-Key; Supplier Part Number 1: LR8K4-GCT-ND
footprint TO-252 (D-PAK)
pins: 1 VIN, 3 ADJ, 4 VOUT

## LR8K4-G_1
designator U?, comment LR8K4-G
SMPS Startup Regulator; Manufacturer: Microchip Technology; Voltage-Input: 13.2-450V; Voltage - Output: 1.2-438V; Current - Output: 30mA; Part Number: LR8K4-G; Supplier 1: Digi-Key; Supplier Part Number 1: LR8K4-GCT-ND
footprint TO-252 (D-PAK)
pins: 1 VIN, 3 ADJ, 4 VOUT

## LR645LG-G
designator U?
SMPS Startup Regulator; Manufacturer: Microchip Technology; Voltage-Input: 15-450V; Voltage - Output: 8-12V; Current - Output: 3mA; Part Number: LR645LG-G; Supplier 1: Digi-Key; Supplier Part Number 1: LR645LG-GCT-ND
footprint SOP127P600X175-8N (SOP, 8-Leads, Body 4.90x3.90mm, Pitch 1.27mm, IPC Medium Density)
pins: 1 Vin, 3 GND, 4 Vout, 5 Trim, 7 Gate

## LR645LG-G_1
designator U?, comment LR645LG-G
SMPS Startup Regulator; Manufacturer: Microchip Technology; Voltage-Input: 15-450V; Voltage - Output: 8-12V; Current - Output: 3mA; Part Number: LR645LG-G; Supplier 1: Digi-Key; Supplier Part Number 1: LR645LG-GCT-ND
footprint SOP127P600X175-8N (SOP, 8-Leads, Body 4.90x3.90mm, Pitch 1.27mm, IPC Medium Density)
pins: 1 Vin, 3 GND, 4 Vout, 5 Trim, 7 Gate

## LRTB R98G RGB LED
designator D?, comment LRTB R98G
L98B R98G SMT RGB LED; Manufacturer: OSRAM; Datasheet: http://www.osram-os.com/Graphics/XPic9/00196779_0.pdf/LRTB%20R98G%20-%20Multi%20CHIPLED.pdf; Manufacturer Part Number: LRTB R98G; Supplier 1: Mouser; Supplier Part Number 1: 720-LRTBR98GR5T1S7T7
footprint LRTB R98G RGB LED (OSRAM SMT RGB LED LRTB R98G)
pins: 1, 2, 3, 4, 5, 6

## LT3088EM#PBF
designator U?, comment IC REG LIN POS ADJ 800MA D2PAK-3L  Supplier 1: Digi-Key  Supplier Part Number 1: LT3088EM#PBF-ND
Linear Voltage Regulator IC Positive Adjustable 1 Output 0 V ~ 34.5 V 800mA D2PAK-3; Manufacturer_Part_Number: LT3088EM#PBF; Vendor: Linear Technology; Built_By: EMA_UL_Team; RefDes: RefDes; Type: DEV; Value: Value; ComponentLink1Description: Digikey Link; ComponentLink1URL: https://www.digikey.com/product-detail/en/linear-technology-analog-devices/LT3088EM-PBF/LT3088EM-PBF-ND/5297581
footprint DDPAK-3_M
pins: 1 SET (in), 2 OUT (out), 3 IN (in), 4 EPAD

## LT3088EM#PBF_1
designator U?, comment IC REG LIN POS ADJ 800MA D2PAK-3L  Supplier 1: Digi-Key  Supplier Part Number 1: LT3088EM#PBF-ND
Linear Voltage Regulator IC Positive Adjustable 1 Output 0 V ~ 34.5 V 800mA D2PAK-3; Manufacturer_Part_Number: LT3088EM#PBF; Vendor: Linear Technology; Built_By: EMA_UL_Team; RefDes: RefDes; Type: DEV; Value: Value; ComponentLink1Description: Digikey Link; ComponentLink1URL: https://www.digikey.com/product-detail/en/linear-technology-analog-devices/LT3088EM-PBF/LT3088EM-PBF-ND/5297581
footprint DDPAK-3_M
pins: 1 SET (in), 2 OUT (out), 3 IN (in), 4 EPAD

## LT3959EUHE#PBF
designator U?
No Description Available; Mfr_Name: Analog Devices Inc; Copyright: Copyright (C) 2022 Ultra Librarian. All rights reserved.; Manufacturer_Part_Number: LT3959EUHE#PBF; Digi-Key_Part_Number_1: 2156-LT3959EUHE#PBF-ND; Digi-Key_Part_Number_2: LT3959EUHE#PBF-CRL-ND; Digi-Key_Part_Number_3: LT3959EUHE#PBF-ND; RefDes: RefDes; Type: DEV
footprint UHEMA_36_ADI
pins: 1 NC, 2 NC, 3 NC, 4 SGND, 5 EPAD, 6 NC, 7 EPAD, 8 SW, 9 SW, 10 NC, 11 EPAD, 12 GNDK, 13 GND, 14 GND, 15 GND, 16 GND, 17 GND, 18 EPAD, 19 EPAD, 20 SW, 21 SW, 22 EPAD, 23 NC, 24 SGND, 25 EN/UVLO, 26 EPAD, 27 VIN (in), 28 DRIVE (out), 29 EPAD, 30 VC (power), 31 FBX, 32 SS, 33 RT, 34 SYNC, 35 *PGOOD (out), 36 INTVCC (power)

## LT-LTC4365-TS8-8
designator U?
IC, Overvoltage Protection, Undervoltage Protection; Supplier 1: Digi-Key; Supplier 2: Digi-Key; Supplier 3: Digi-Key; Supplier Part Number 1: LTC4365ITS8-1#TRMPBFCT-ND; Supplier Part Number 2: LTC4365ITS8-1#TRMPBFDKR-ND; Supplier Part Number 3: LTC4365ITS8-1#TRMPBFTR-ND
footprint LT-TS8-8-TSOT-23_V (SOT23, 8-Leads, Body 2.90x1.63mm, Pitch 0.65mm, Recommended)
pins: 1 VIN (power) "Power Supply Input. Maximum protection range: -40V to 60V. Operating range: 2.5V to 34V.", 2 UV (in) "Undervoltage Comparator Input. Connect this pin to an external resistive divider to set the desired VIN undervoltage fault threshold. Input to an accurate, fast (1us) comparator with a 0.5V falling threshold and 25mV of (See Datasheet)", 3 OV (in) "Overvoltage Comparator Input. Connect this pin to an external resistive divider to set the desired VIN overvoltage fault threshold. Input to an accurate, fast (1us) comparator with a 0.5V rising threshold and 25mV of (See Datasheet)", 4 GND (power) "Device Ground", 5 ~{SHDN} (in) "Shutdown Control Input. S\H\D\N\ high enables the GATE charge pump which in turn enhances the gate of an external N-channel MOSFET. A low on S\H\D\N\ generates a pull down on the GATE output with a 90uA current sink and (See Datasheet)", 6 ~{FAULT} (oc) "Fault Indication Output. This high voltage open drain output is pulled low if UV is below its monitor threshold, if OV is above its monitor threshold, if S\H\D\N\ is low, or if VIN has not risen above VIN(UVLO).", 7 VOUT (in) "Output Voltage Sense Input. This pin senses the voltage at the output side of the external N-channel MOSFET. The GATE charge pump voltage is referenced to VOUT. It is used as the charge pump input when VOUT is greater than (See Datasheet)", 8 GATE (out) "Gate Drive Output for External N-channel MOSFETs. An internal charge pump provides 20uA of pull-up current and up to 9.8V of enhancement to the gate of an external N-channel MOSFET When turned off, GATE is pulled just below (See Datasheet)"

## LT-LTC4365-TS8-8_1
designator U?
IC, Overvoltage Protection, Undervoltage Protection; Supplier 1: Digi-Key; Supplier 2: Digi-Key; Supplier 3: Digi-Key; Supplier Part Number 1: LTC4365ITS8-1#TRMPBFCT-ND; Supplier Part Number 2: LTC4365ITS8-1#TRMPBFDKR-ND; Supplier Part Number 3: LTC4365ITS8-1#TRMPBFTR-ND
footprint LT-TS8-8-TSOT-23_V (SOT23, 8-Leads, Body 2.90x1.63mm, Pitch 0.65mm, Recommended)
pins: 1 VIN (power) "Power Supply Input. Maximum protection range: -40V to 60V. Operating range: 2.5V to 34V.", 2 UV (in) "Undervoltage Comparator Input. Connect this pin to an external resistive divider to set the desired VIN undervoltage fault threshold. Input to an accurate, fast (1us) comparator with a 0.5V falling threshold and 25mV of (See Datasheet)", 3 OV (in) "Overvoltage Comparator Input. Connect this pin to an external resistive divider to set the desired VIN overvoltage fault threshold. Input to an accurate, fast (1us) comparator with a 0.5V rising threshold and 25mV of (See Datasheet)", 4 GND (power) "Device Ground", 5 ~{SHDN} (in) "Shutdown Control Input. S\H\D\N\ high enables the GATE charge pump which in turn enhances the gate of an external N-channel MOSFET. A low on S\H\D\N\ generates a pull down on the GATE output with a 90uA current sink and (See Datasheet)", 6 ~{FAULT} (oc) "Fault Indication Output. This high voltage open drain output is pulled low if UV is below its monitor threshold, if OV is above its monitor threshold, if S\H\D\N\ is low, or if VIN has not risen above VIN(UVLO).", 7 VOUT (in) "Output Voltage Sense Input. This pin senses the voltage at the output side of the external N-channel MOSFET. The GATE charge pump voltage is referenced to VOUT. It is used as the charge pump input when VOUT is greater than (See Datasheet)", 8 GATE (out) "Gate Drive Output for External N-channel MOSFETs. An internal charge pump provides 20uA of pull-up current and up to 9.8V of enhancement to the gate of an external N-channel MOSFET When turned off, GATE is pulled just below (See Datasheet)"

## LTC1470CS8#PBF-ND
designator U?  Supplier Part Number 1: LTC1470CS8#PBF-ND
IC SWTCH PCMCIA3.3V/5V SNGL8SOIC; Supplier 1: Digi-Key
footprint SOIC127P600X175-8N-L (SOIC, 8-Leads, Body 4.90x3.90mm, Pitch 1.27mm, IPC Medium Density)
pins: 1 OUT, 2 5VIN, 3 EN1, 4 EN0, 5 GND, 6 3VIN, 7 3VIN, 8 OUT

## LTC1470CS8#PBF-ND_1
designator U?  Supplier Part Number 1: LTC1470CS8#PBF-ND
IC SWTCH PCMCIA3.3V/5V SNGL8SOIC; Supplier 1: Digi-Key
footprint SOIC127P600X175-8N-L (SOIC, 8-Leads, Body 4.90x3.90mm, Pitch 1.27mm, IPC Medium Density)
pins: 1 OUT, 2 5VIN, 3 EN1, 4 EN0, 5 GND, 6 3VIN, 7 3VIN, 8 OUT

## LTC2357
designator U?
Supplier 1: Digi-Key
footprint LTC2357 (TSQFP, 48-Leads, Body 7.00x7.00mm, Pitch 0.50mm, IPC Medium Density)
part A pins: 3 IN2-, 4 IN2+, 9 IN1-, 10 IN1+, 13 IN0-, 14 IN0+, 23 LVDS, 24 CNV, 26 SDI+, 27 SDi-/SDO0, 28 SCKI+/SDO1, 29 SCKI-/SCKI, 32 SCKO+/SCKO, 33 SCKO-/SDO2, 34 SDO+/SDO3, 35 SDO-, 37 SDI, 38 BUSY, 39 CS_N, 47 IN3-, 48 IN3+
part B pins: 1 GND, 2 GND, 5 GND, 6 GND, 7 GND, 8 GND, 11 GND, 12 GND, 15 GND, 16 VCC, 17 VEE, 18 GND, 20 GND, 22 PD, 25 GND, 30 GND, 31 OVDD, 36 GND, 40 VDDLBYP, 41 GND, 42 VDD, 43 VDD, 44 GND, 45 VEE, 46 GND

## LTC3622IMSE-2
designator U?  Supplier Part Number 1: LTC3622IMSE-2#PBF-ND
IC REG BCK 3.3V/5V 1A SYNC 14DFN; Supplier 1: Digi-Key
footprint LT-MSE-16-EDP_L (SOP, 16-Leads, Body 4.1x3.1mm, Pitch 0.5mm, Thermal Pad 2.95x1.76mm, IPC High Density)
pins: 1 VIN1, 3 PGOOD1, 4 MODE/SYNC, 5 PHASE, 6 PGOOD2, 7 ILIM, 8 VIN2, 9 SW2, 10 RUN2, 11 FB2, 12 INTVCC, 13 FB1, 14 RUN1, 16 SW1, 17 SINK

## LTC3622IMSE-2_1
designator U?  Supplier Part Number 1: LTC3622IMSE-2#PBF-ND
IC REG BCK 3.3V/5V 1A SYNC 14DFN; Supplier 1: Digi-Key
footprint LT-MSE-16-EDP_L (SOP, 16-Leads, Body 4.1x3.1mm, Pitch 0.5mm, Thermal Pad 2.95x1.76mm, IPC High Density)
pins: 1 VIN1, 3 PGOOD1, 4 MODE/SYNC, 5 PHASE, 6 PGOOD2, 7 ILIM, 8 VIN2, 9 SW2, 10 RUN2, 11 FB2, 12 INTVCC, 13 FB1, 14 RUN1, 16 SW1, 17 SINK

## LTC4440AHMS8E-5#
designator U?
https://www.digikey.com/product-detail/en/linear-technology-analog-devices/LTC4440AHMS8E-5-PBF/LTC4440AHMS8E-5-PBF-ND/4437928; Manufacturer_Part_Number: LTC4440AHMS8E-5#PBF; Vendor: Linear Technology; Built_By: EMA_UL_Team; RefDes: RefDes; Type: DEV; Value: Value
footprint MSOP-8_MS
pins: 1 INP (in), 2 GND (power), 3 VCC (power), 4 GND (power), 5 NC, 6 BOOST, 7 TG (out), 8 TS

## LTC4440AHMS8E-5#_1
designator U?
https://www.digikey.com/product-detail/en/linear-technology-analog-devices/LTC4440AHMS8E-5-PBF/LTC4440AHMS8E-5-PBF-ND/4437928; Manufacturer_Part_Number: LTC4440AHMS8E-5#PBF; Vendor: Linear Technology; Built_By: EMA_UL_Team; RefDes: RefDes; Type: DEV; Value: Value
footprint MSOP-8_MS
pins: 1 INP (in), 2 GND (power), 3 VCC (power), 4 GND (power), 5 NC, 6 BOOST, 7 TG (out), 8 TS

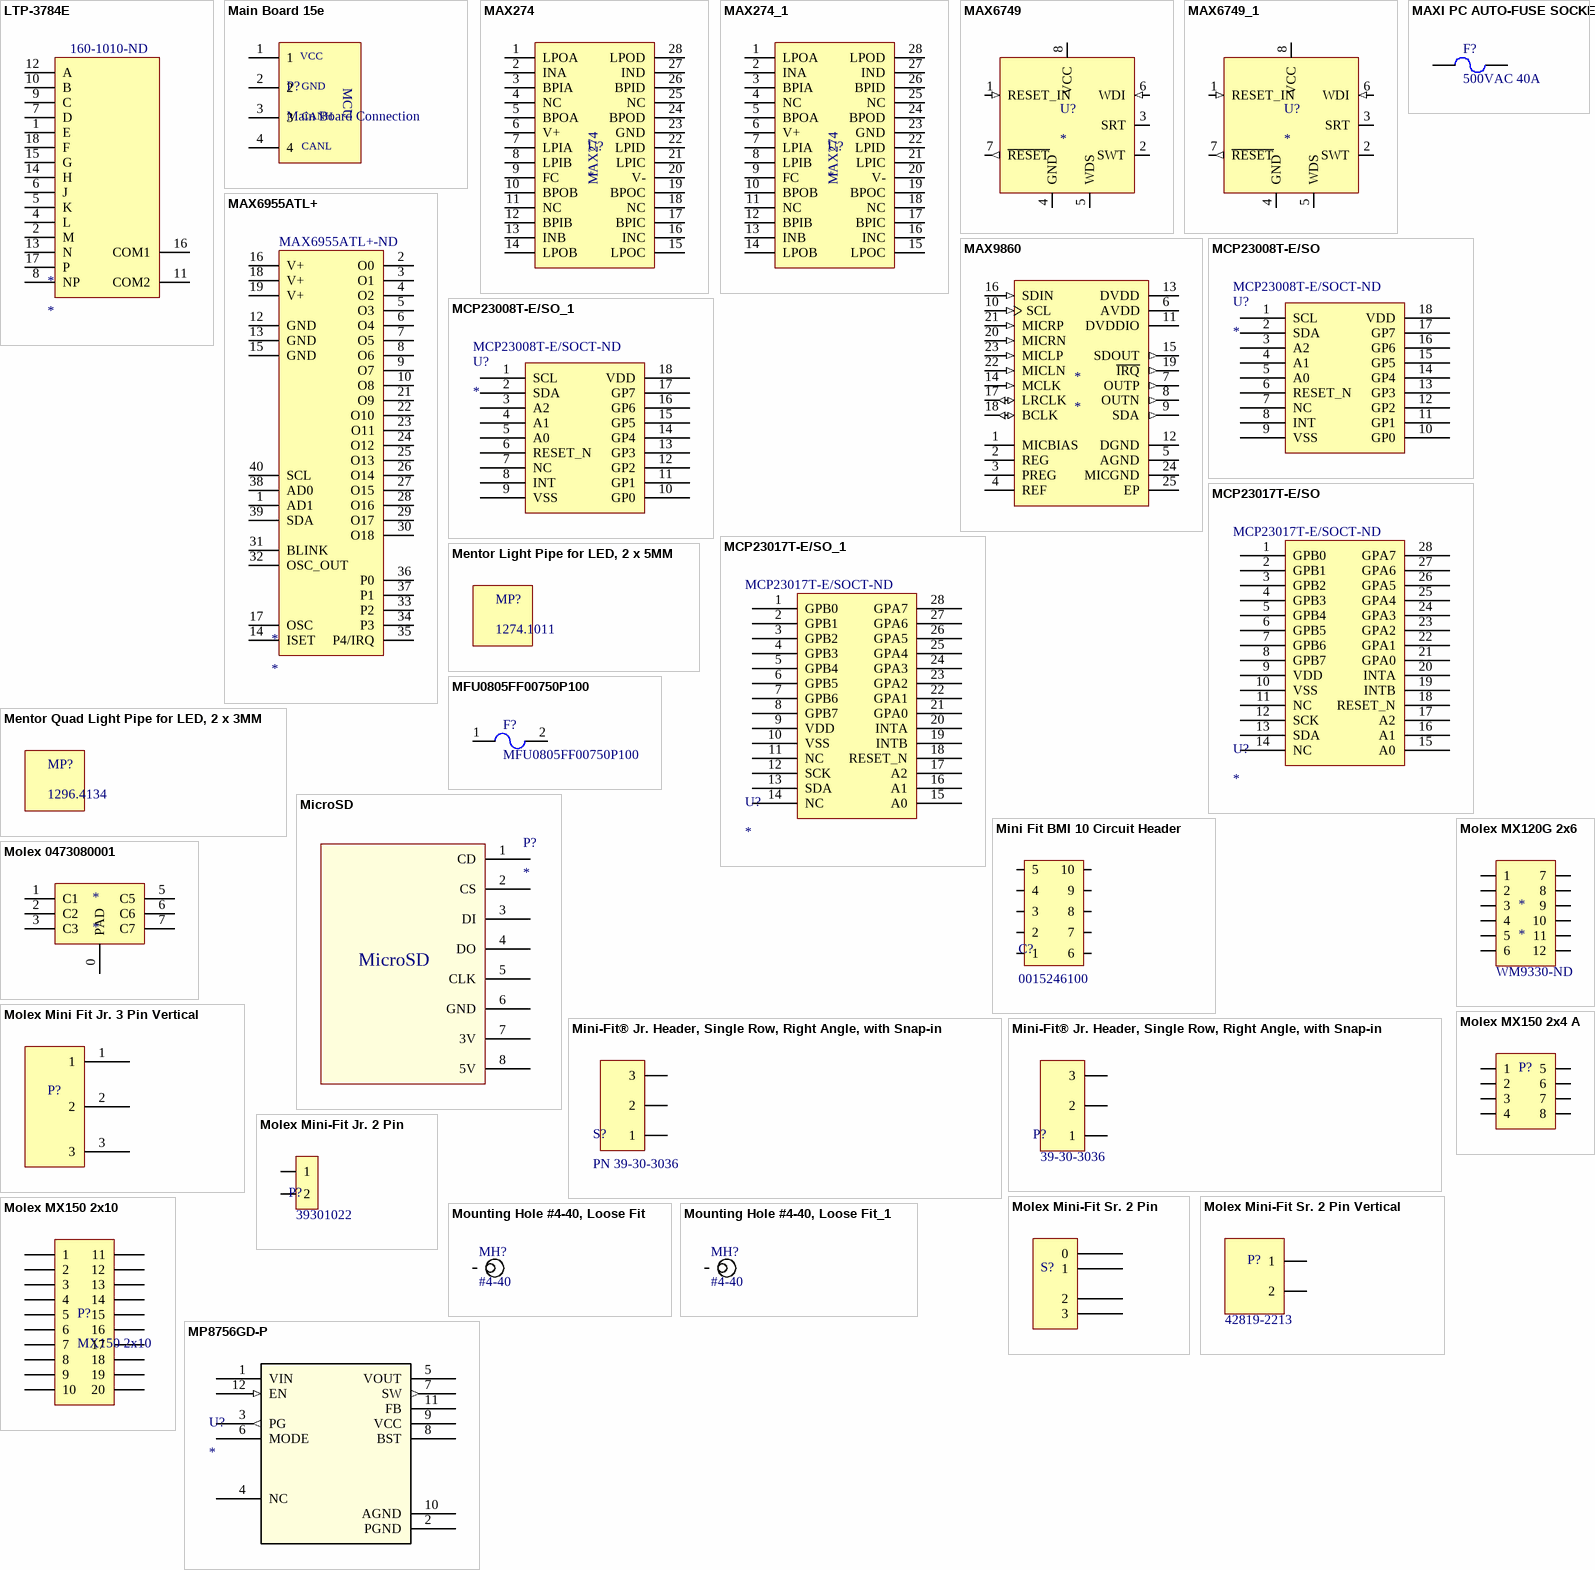
[diagram p8: symbols LTP-3784E to MP8756GD-P]

## LTP-3784E
designator *  Supplier Part Number 1: 160-1010-ND
LED ALPHNUM.54" 2DGT RED-ORNG CC; Manufacturer: Lite-On Inc.; Manufacturer Part Number: LTP-3784E; Number of Characters: 2; Digit/Alpha Size: 0.54" (13.72mm); Display Type: 14-Segment, Alphanumeric; Common Pin: Common Cathode; Voltage - Forward (Vf) (Typ): 2V; Current - Test: 20mA; Millicandela Rating: 2.3mcd; Wavelength - Peak: 630nm; Power Dissipation (Max): 75mW; Supplier 1: Digi-Key; RoHS: RoHS Compliant; Category: Optoelectronics; Stock 1: 4674; Pricing 1: 1=3.78, 10=3.154, 25=2.6492, 100=2.2707, 250=2.0184, 500=1.82918, 1000=1.6778, 2500=1.60841, 5000=1.57688 (USD); Packaging: Tube; Part Status: Active; Size / Dimension: 0.833" H x 0.989" W x 0.307" D (21.15mm x 25.12mm x 7.80mm); Color: Orange-Red; Package / Case: 18-DIP; ComponentLink1URL: http://optoelectronics.liteon.com/upload/download/DS-30-96-084/S_110_P3784E.pdf; ComponentLink1Description: http://optoelectronics.liteon.com/upload/download/DS-30-96-084/S_110_P3784E.pdf
footprint Lite-On LTP-3784E
pins: 1 E, 2 M, 4 L, 5 K, 6 J, 7 D, 8 NP, 9 C, 10 B, 11 COM2, 12 A, 13 N, 14 H, 15 G, 16 COM1, 17 P, 18 F

## Main Board 15e
designator P?, comment Main Board Connection
15e's Main Board
footprint Main Board 15e (15e Main Board connection for DAQ node)
pins: 1, 2, 3, 4
text: VCC; MCU; GND; CANH; CANL

## MAX274
designator U?
footprint SOP28W
pins: 1 LPOA, 2 INA, 3 BPIA, 4 NC, 5 BPOA, 6 V+, 7 LPIA, 8 LPIB, 9 FC, 10 BPOB, 11 NC, 12 BPIB, 13 INB, 14 LPOB, 15 LPOC, 16 INC, 17 BPIC, 18 NC, 19 BPOC, 20 V-, 21 LPIC, 22 LPID, 23 GND, 24 BPOD, 25 NC, 26 BPID, 27 IND, 28 LPOD

## MAX274_1
designator U?
footprint SOP28W
pins: 1 LPOA, 2 INA, 3 BPIA, 4 NC, 5 BPOA, 6 V+, 7 LPIA, 8 LPIB, 9 FC, 10 BPOB, 11 NC, 12 BPIB, 13 INB, 14 LPOB, 15 LPOC, 16 INC, 17 BPIC, 18 NC, 19 BPOC, 20 V-, 21 LPIC, 22 LPID, 23 GND, 24 BPOD, 25 NC, 26 BPID, 27 IND, 28 LPOD

## MAX6749
designator U?
uP Supervisor / Watchdog, MAX6749; Temp (C) (min): -40; Temp (C) (max): 125; Package: SOT23; Datasheet URL: http://datasheets.maximintegrated.com/en/ds/MAX6746-MAX6753.pdf; Supplier 1: Digi-Key; Supplier Part Number 1: MAX6749KA+TCT-ND
footprint 8 SOT23 (used for MAX6749)
pins: 1 RESET_IN (in), 2 SWT, 3 SRT, 4 GND (power), 5 WDS (power), 6 WDI (in), 7 ~{RESET} (out), 8 VCC (power)

## MAX6749_1
designator U?
uP Supervisor / Watchdog, MAX6749; Temp (C) (min): -40; Temp (C) (max): 125; Package: SOT23; Datasheet URL: http://datasheets.maximintegrated.com/en/ds/MAX6746-MAX6753.pdf; Supplier 1: Digi-Key; Supplier Part Number 1: MAX6749KA+TCT-ND
footprint 8 SOT23 (used for MAX6749)
pins: 1 RESET_IN (in), 2 SWT, 3 SRT, 4 GND (power), 5 WDS (power), 6 WDI (in), 7 ~{RESET} (out), 8 VCC (power)

## MAX6955ATL+
designator *  Supplier Part Number 1: MAX6955ATL+-ND
IC DRVR DSPL LED 40-TQFN; Manufacturer: Maxim Integrated; Manufacturer Part Number: MAX6955ATL+; Configuration: 7, 14, 16 Segment; Interface: I²C; Current - Supply: 22mA; Voltage - Supply: 2.7 V ~ 5.5 V; Supplier 1: Digi-Key; RoHS: RoHS Compliant; Category: Integrated Circuits (ICs); Stock 1: 171; Pricing 1: 1=16.05, 10=15.248, 25=12.57, 50=11.9416, 250=11.571, 500=10.2765 (USD); Packaging: Tube; Part Status: Active; Display Type: LED; Digits or Characters: -; Operating Temperature: -40°C ~ 125°C; Mounting Type: Surface Mount; Package / Case: 40-WFQFN Exposed Pad; Supplier Device Package: 40-TQFN-EP (6x6); ComponentLink1URL: http://datasheets.maximintegrated.com/en/ds/MAX6955.pdf; ComponentLink1Description: http://datasheets.maximintegrated.com/en/ds/MAX6955.pdf
footprint QFN50P600X600X80_HS-41N (QFN, 40-Leads, Body 6.00x6.00mm, Pitch 0.50mm, Thermal Pad 4.10x4.10mm, IPC Medium Density)
pins: 1 AD1, 2 O0, 3 O1, 4 O2, 5 O3, 6 O4, 7 O5, 8 O6, 9 O7, 10 O8, 12 GND, 13 GND, 14 ISET, 15 GND, 16 V+, 17 OSC, 18 V+, 19 V+, 21 O9, 22 O10, 23 O11, 24 O12, 25 O13, 26 O14, 27 O15, 28 O16, 29 O17, 30 O18, 31 BLINK, 32 OSC_OUT, 33 P2, 34 P3, 35 P4/IRQ, 36 P0, 37 P1, 38 AD0, 39 SDA, 40 SCL

## MAX9860
designator *
footprint MAX9860
pins: 1 MICBIAS, 2 REG, 3 PREG, 4 REF, 5 AGND (power), 6 AVDD (power), 7 OUTP (out), 8 OUTN (out), 9 SDA (out), 10 SCL (in), 11 DVDDIO (power), 12 DGND (power), 13 DVDD (power), 14 MCLK (in), 15 SDOUT (out), 16 SDIN (in), 17 LRCLK (io), 18 BCLK (io), 19 ~{IRQ} (out), 20 MICRN (in), 21 MICRP (in), 22 MICLN (in), 23 MICLP (in), 24 MICGND (power), 25 EP (power)

## MAXI PC AUTO-FUSE SOCKET
designator F?, comment 500VAC 40A
FUSE BLOCK BLADE 500V 40A PCB; Manufacturer Part Number: 3555-2; Manufacturer: Keystone Electronics; Voltage Rating: 500V (AC); Current Rating: 40A; Datasheet URL: http://www.keyelco.com/userAssets/file/M60-2p38.pdf
footprint MAXI PC AUTO-FUSE SOCKET (FUSE BLOCK BLADE 500V 40A PCB)
pins: 1, 2

## MCP23008T-E/SO
designator U?  Supplier Part Number 1: MCP23008T-E/SOCT-ND
IC I/O EXPANDER I2C 8B 18SOIC; Supplier 1: Digi-Key
footprint SOIC127P1030X265-18N (SOIC, 18-Leads, Body 11.55x7.50mm, Pitch 1.27mm, IPC Medium Density)
pins: 1 SCL, 2 SDA, 3 A2, 4 A1, 5 A0, 6 RESET_N, 7 NC, 8 INT, 9 VSS, 10 GP0, 11 GP1, 12 GP2, 13 GP3, 14 GP4, 15 GP5, 16 GP6, 17 GP7, 18 VDD

## MCP23008T-E/SO_1
designator U?  Supplier Part Number 1: MCP23008T-E/SOCT-ND
IC I/O EXPANDER I2C 8B 18SOIC; Supplier 1: Digi-Key
footprint SOIC127P1030X265-18N (SOIC, 18-Leads, Body 11.55x7.50mm, Pitch 1.27mm, IPC Medium Density)
pins: 1 SCL, 2 SDA, 3 A2, 4 A1, 5 A0, 6 RESET_N, 7 NC, 8 INT, 9 VSS, 10 GP0, 11 GP1, 12 GP2, 13 GP3, 14 GP4, 15 GP5, 16 GP6, 17 GP7, 18 VDD

## MCP23017T-E/SO
designator U?  Supplier Part Number 1: MCP23017T-E/SOCT-ND
IC I/O EXPANDER I2C 16B 28SOIC; Supplier 1: Digi-Key
footprint SOIC127P1030X265-28N (SOIC, 28-Leads, Body 17.90x7.50mm, Pitch 1.27mm, IPC Medium Density)
pins: 1 GPB0, 2 GPB1, 3 GPB2, 4 GPB3, 5 GPB4, 6 GPB5, 7 GPB6, 8 GPB7, 9 VDD, 10 VSS, 11 NC, 12 SCK, 13 SDA, 14 NC, 15 A0, 16 A1, 17 A2, 18 RESET_N, 19 INTB, 20 INTA, 21 GPA0, 22 GPA1, 23 GPA2, 24 GPA3, 25 GPA4, 26 GPA5, 27 GPA6, 28 GPA7

## MCP23017T-E/SO_1
designator U?  Supplier Part Number 1: MCP23017T-E/SOCT-ND
IC I/O EXPANDER I2C 16B 28SOIC; Supplier 1: Digi-Key
footprint SOIC127P1030X265-28N (SOIC, 28-Leads, Body 17.90x7.50mm, Pitch 1.27mm, IPC Medium Density)
pins: 1 GPB0, 2 GPB1, 3 GPB2, 4 GPB3, 5 GPB4, 6 GPB5, 7 GPB6, 8 GPB7, 9 VDD, 10 VSS, 11 NC, 12 SCK, 13 SDA, 14 NC, 15 A0, 16 A1, 17 A2, 18 RESET_N, 19 INTB, 20 INTA, 21 GPA0, 22 GPA1, 23 GPA2, 24 GPA3, 25 GPA4, 26 GPA5, 27 GPA6, 28 GPA7

## Mentor Light Pipe for LED, 2 x 5MM
designator MP?, comment 1274.1011
Single LED Light Guide - 2mm x 5mm, 15mm height; Manufacturer: Mentor; Manufacturer Part Number: 1274.1011; Datasheet: http://www.tme.eu/en/Document/145e8fcdcc8fe86a85cd92160bd5d5db/1274.1011.pdf; Supplier 1: Farnell; Supplier Part Number 1: 2300569
footprint MENTOR 1274.1011 (MENTOR LIGHTPIPE FOR LED, 2 x 5MM)

## Mentor Quad Light Pipe for LED, 2 x 3MM
designator MP?, comment 1296.4134
LED Light Guide Array - 2mm x 3mm, 15mm height, 4 guides; Manufacturer: Mentor; Manufacturer Part Number: 1296.4134; Datasheet: http://www.farnell.com/datasheets/1693513.pdf; Supplier 1: Farnell; Supplier Part Number 1: 2300661
footprint MENTOR 1296.4134 (MENTOR QUAD LIGHTPIPE FOR LED, 2 x 3MM)

## MFU0805FF00750P100
designator F?
750mA, 32Vdc, SMT, Fast Blow, 0805; Breaking Capacity: 50 A; Current Rating: 750 mA; Voltage Rating: 32 Vdc; Package: 0805; Supplier 1: Digi-Key; Supplier Part Number 1: MFU0805.75CT-ND
footprint MFU Series 0805 (SMT Fuse, 0805, Vishay MFU Series)
pins: 1, 2

## MicroSD
designator P?
MicroSD card reader
footprint MicroSD
pins: 1 CD, 2 CS, 3 DI, 4 DO, 5 CLK, 6 GND, 7 3V, 8 5V

## Mini Fit BMI 10 Circuit Header
designator C?, comment 0015246100
Mini-Fit® BMI Header, Dual Row, Right Angle, with Snap-in Plastic Peg PCB Lock, 10 Circuits, PA Polyamide Nylon 6/6, UL 94V-2, with Tin (Sn) Plating; Rows: 2; Circuits: 10; Max Current: 13A (not derated); Part Number: 0015246100
footprint MOLEX Mini-Fit BMI 2 row, 10 contact
pins: 1, 2, 3, 4, 5, 6, 7, 8, 9, 10

## Mini-Fit® Jr. Header, Single Row, Right Angle, with Snap-in Plastic Peg PCB Lock, 3 Circuits, PA Polyamide Nylon 6/6, 94V-0, Tin (Sn) Plating
designator S?, comment PN 39-30-3036
Mini-Fit® Jr. Header, Single Row, Right Angle, with Snap-in Plastic Peg PCB Lock, 3 Circuits, PA Polyamide Nylon 6/6, 94V-0, Tin (Sn) Plating; Circuit: 3; Voltage Rating: 600V; Current Rating (max): 13A
footprint Mini-Fit® Jr. Header 3 Circuit (Mini-Fit® Jr. Header, Single Row, Right Angle, with Snap-in Plastic Peg PCB Lock, 3 Circuits, PA Polyamide Nylon 6/6, 94V-0, Tin (Sn) Plating)
pins: 1, 2 (power), 3

## Mini-Fit® Jr. Header, Single Row, Right Angle, with Snap-in Plastic Peg PCB Lock, 3 Circuits, PA Polyamide Nylon 6/6, 94V-0, Tin (Sn) Plating_1
designator P?, comment Manufacturer Part Number: 39-30-3036  (hidden comment: Mini-Fit® Jr. Header, Single Row, 3 Circuits, Right Angle)
Mini-Fit® Jr. Header, Single Row, Right Angle, with Snap-in Plastic Peg PCB Lock, 3 Circuits, PA Polyamide Nylon 6/6, 94V-0, Tin (Sn) Plating; Manufacturer: Molex; Circuit: 3; Voltage Rating: 600V; Current Rating (max): 13A; Supplier 1: Digi-Key; Supplier Part Number 1: WM24038-ND
footprint Molex Mini Fit Jr. 3 Pin Right Angle (Mini-Fit® Jr. Header, Single Row, Right Angle, with Snap-in Plastic Peg PCB Lock, 3 Circuits, PA Polyamide Nylon 6/6, 94V-0, Tin (Sn) Plating)
pins: 1, 2 (power), 3

## Misc PCB Components
designator *  (value not drawn)
footprint TITLE BLOCK SMALL (Small title block)
footprint CMR LOGO
footprint FAB NOTES (Fabrication notes)
footprint TITLE BLOCK MEDIUM (Medium title block)
footprint STACKUP 4-LAYER 4-SIG (Four Layer PCB Stackup Note, 4 Signal Layers)
footprint STACKUP 2-LAYER (Two Layer PCB Stackup Note)
footprint STACKUP 4-LAYER 2-SIG (Four Layer PCB Stackup Note, 2 Signal Layer)

## Molex 0473080001
designator *
CONN SIM CARD PUSH-PULL R/A SMD
footprint Molex 0473080001
pins: 0 PAD, 1 C1, 2 C2, 3 C3, 5 C5, 6 C6, 7 C7

## Molex Mini Fit Jr. 3 Pin Vertical
designator P?, comment 39-30-2030  (value not drawn)
Manufacturer: Molex; Circuits: 3; Current Rating: 9A; Voltage Rating: 600V; Datasheet URL: http://www.molex.com/webdocs/datasheets/pdf/en-us/0039302030_PCB_HEADERS.pdf; Manufacturer Part Number: 39-30-2030
footprint Molex Mini Fit Jr. 3 Pin Vertical
pins: 1, 2, 3

## Molex Mini-Fit Jr. 2 Pin
designator P?  Manufacturer PN: 39301022  (hidden comment: Molex Mini-Fit Jr. 2 Pin)
Molex Mini-Fit Jr., Right Angle, TH, 2x1; Max Current (per contact): 13 A; Max Voltage (DC): 600 V; Supplier 1: Digi-Key; Supplier Part Number 1: WM21363-ND
footprint MOLEX MINI-FIT JR. 2 PIN (Molex Mini-Fit Jr., Right Angle, TH, 2x1)
pins: 1, 2

## Molex Mini-Fit Sr. 2 Pin
designator S?  (value not drawn)
footprint Molex Mini Fit Sr. 2 Pin
pins: 0, 1, 2, 3

## Molex Mini-Fit Sr. 2 Pin Vertical
designator P?  Manufacturer Part #: 42819-2213  (hidden comment: Molex Mini-Fit Sr. 2 Pin Vertical)
10.00mm Pitch Mini-Fit Sr.™ Header, Single Row, Vertical, 1.57mm PCB Thickness, 0.76µm Gold (Au) Selective Plating, 2 Circuits; Circuits: 2; Current Rating: 50A; Voltage Rating: 600V; Manufacturer: Molex; Datasheet URL: http://www.molex.com/webdocs/datasheets/pdf/en-us/0428192213_PCB_HEADERS.pdf; Supplier 1: Digi-Key; Supplier Part Number 1: WM10846-ND
footprint MOLEX MINI FIT SR. 2 PIN VERTICAL
pins: 1, 2